# Altium footprint library isolationScaleSMD_V4 - Copy.PcbLib: 12 footprints
Each footprint in its own frame and in the unit in brackets; x right, y up, seen from the top. Pads: shape width x height; smd on the part's side, far side on the other; paste and mask are expansions set on the pad; w line width, h text height; cw(c..) or ccw(c..) is an arc to the next point about the centre after c.
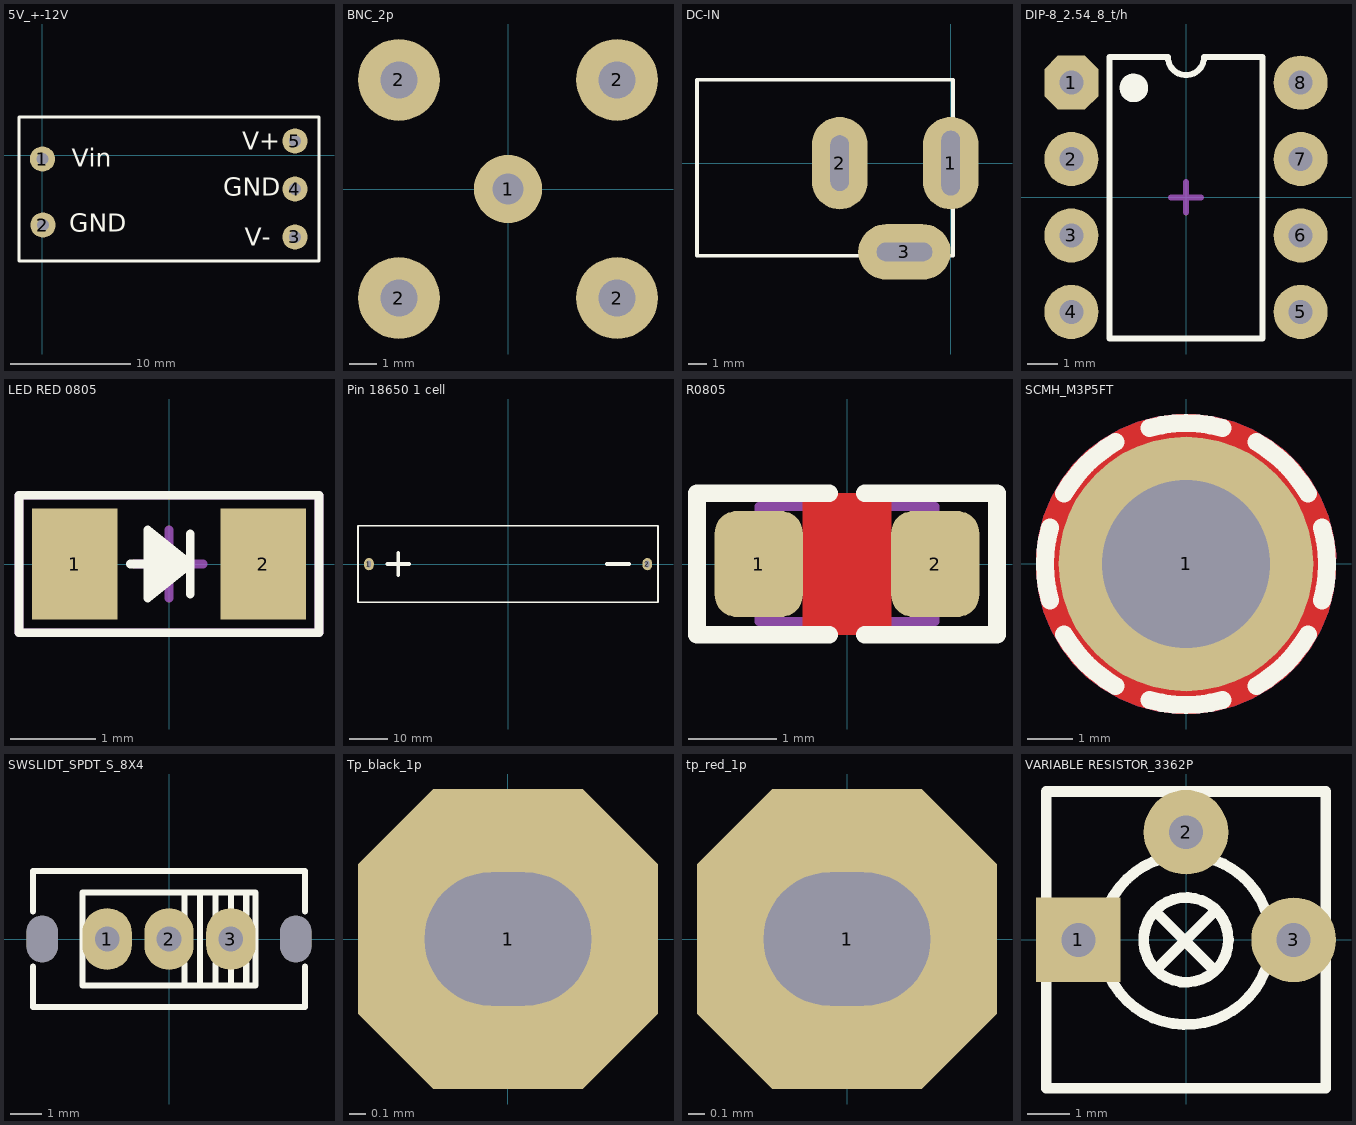
[diagram p0: the footprints below, top view; thin cyan lines are the x and y axes]

## 5V_+-12V [mm]
height 0.9
pads (5):
  round 2.1 hole 1: 1(0,-0.3) 2(0.049,-5.8) 3(21.049,-6.8) 4(21.049,-2.8) 5(21.049,1.2)
Top Overlay:
  lines w0.25: -1.951,-8.8 -1.951,3.2 23.049,3.2 23.049,-8.8 -1.951,-8.8
  text "Vin" at 2.454,-0.946 h1.52
  text "GND" at 2.254,-6.346 h1.52
  text "V+" at 16.654,0.454 h1.52
  text "V-" at 16.854,-7.546 h1.52
  text "GND" at 15.054,-3.346 h1.52

## BNC_2p [mm]
height 8.5
pads (5):
  round 2.5 hole 1.15: 1(0,0)
  round 3 hole 1.35: 2(-4,-4) 2(-4,4) 2(4,-4) 2(4,4)
3D body "China BNC.STEP": height 14.35, standoff -3.65, extent -6.5,-4.973 6.5,25.027

## DC-IN [mm] "Jac DC input"
height 5.08
pads (3):
  oval 3x5 hole 1 slot 3.5 at 90 deg: 1(0,0)
  oval 3x5 hole 1 slot 3 at 90 deg: 2(-6,0)
  oval 5x3 hole 1 slot 3 at 0 deg: 3(-2.5,-4.8)
Top Overlay:
  lines w0.2: -13.716,-5.008 0.127,-5.008 0.127,4.5 -13.716,4.5 -13.716,-5.008
3D body "SW3dPS-dc range - dc connector[4840.2201].STEP": height 11.02, standoff -3.48, extent -13.627,-5.003 0.199,4.503

## DIP-8_2.54_8_t/h [mm]
height 8.5
pads (8):
  oct 1.8x1.8 hole 0.8: 1(-3.81,3.81)
  round 1.8 hole 0.8: 2(-3.81,1.27) 3(-3.81,-1.27) 4(-3.81,-3.81) 5(3.81,-3.81) 6(3.81,-1.27) 7(3.81,1.27) 8(3.81,3.81)
Top Overlay:
  circle w0.254: c-1.734,3.635 r0.35
  region: -1.734,3.285 -1.804,3.285 -1.932,3.338 -2.031,3.437 -2.084,3.565 -2.084,3.635 -2.084,3.705 -2.031,3.833 -1.932,3.932 -1.804,3.985 -1.734,3.985 -1.664,3.985 -1.536,3.932 -1.437,3.833 -1.384,3.705 -1.384,3.635 -1.384,3.565 -1.437,3.437 -1.536,3.338 -1.664,3.285
  lines w0.2: -2.54,-4.699 2.54,-4.699 2.54,4.659 0.6,4.659 cw(c0,4.659) -0.6,4.659 -2.54,4.659 -2.54,-4.699
Mechanical 15:
  lines w0.2: -0.5,0 0.5,0 ; 0,-0.5 0,0.5
3D body "User Library-DIP-8P-M01.step": height 4.36, standoff -3, extent -3.937,-4.7 3.933,4.7

## LED RED 0805 [mm]
pads (2):
  rect 1x1.3 smd: 1(-1.1,0) 2(1.1,0)
Top Overlay:
  region: -0.25,-0.4 -0.25,0.4 0.25,0
  lines w0.1: -0.45,0 -0.25,0 ; 0.25,-0.35 0.25,0.35 ; -1.75,-0.8 1.75,-0.8 1.75,0.8 -1.75,0.8 -1.75,-0.8 ; -0.25,-0.4 0.25,0 -0.25,0.4 -0.25,-0.4
Mechanical 13:
  lines w0.1: -1.75,-0.8 -1.75,0.8 1.75,0.8 1.75,-0.8 -1.75,-0.8
Mechanical 15:
  lines w0.1: -0.4,0 0.4,0 ; 0,-0.4 0,0.4
3D body "LED-0805-Red.step": height 0.8, standoff -0.01, extent -1.01,-0.625 1.01,0.625

## Pin 18650 1 cell [mm]
height 0.9
pads (2):
  oval 2.5x3.2 hole 1 slot 1.7 at 90 deg: 1(-36.2,0) 2(36.2,0)
Top Overlay:
  lines w0.4: -39.052,-9.97 -39.052,10.033 38.989,10.033 38.989,-9.97 -39.052,-9.97
  lines w1: -31.432,0 -25.717,0 ; -28.575,-2.857 -28.575,2.857 ; 25.717,0 31.432,0
3D body "Hold_18650-1p.stp": height 21.7, standoff -3.8, extent -39,-10 39,10

## R0805 [mm] "CHIP RESISTOR 1/8 WATT ,2.0X1.3mm, 0805, 2012"
height 0.9
pads (2):
  rrect50% 1x1.2 smd mask+0.05: 1(-1,0) 2(1,0)
Top Layer:
  pour cut-out: -0.5,0.8 0.5,0.8 0.5,-0.8 -0.5,-0.8
Top Overlay:
  lines w0.2: -0.2,-0.8 -1.7,-0.8 -1.7,0.8 -0.2,0.8 ; 0.2,-0.8 1.7,-0.8 1.7,0.8 0.2,0.8
Mechanical 13:
  lines w0.1: -1,-0.65 1,-0.65 1,0.65 -1,0.65 -1,-0.65
3D body "User Library-RES_2013-0805.step": height 0.76, standoff 0, extent -1.15,-0.675 1.15,0.675

## SCMH_M3P5FT [mm] "SCREW mouting, M3.5, 3.5mm diameter and 7.0mm, FlatHead"
height 17
pads (1):
  round 5.6 / inner round 4 / far side round 5.6 hole 3.7 mask+0.1: 1(0,0)
Top Layer:
  pour cut-out: 0,3.3 -0.216,3.3 -0.645,3.244 -1.063,3.132 -1.463,2.966 -1.837,2.75 -2.181,2.486 -2.486,2.181 -2.75,1.837 -2.966,1.463 -3.132,1.063 -3.244,0.645 -3.3,0.216 -3.3,0 -3.3,-0.216 -3.244,-0.645 -3.132,-1.063 -2.966,-1.463 -2.75,-1.837 -2.486,-2.181 -2.181,-2.486 -1.837,-2.75 -1.463,-2.966 -1.063,-3.132 -0.645,-3.244 -0.216,-3.3 0,-3.3 0.216,-3.3 0.645,-3.244 1.063,-3.132 1.463,-2.966 1.837,-2.75 2.18,-2.486 2.486,-2.181 2.75,-1.837 2.966,-1.463 3.132,-1.063 3.244,-0.645 3.3,-0.216 3.3,0 3.3,0.216 3.244,0.645 3.132,1.063 2.966,1.463 2.75,1.837 2.486,2.181 2.181,2.486 1.837,2.75 1.463,2.966 1.063,3.132 0.645,3.244 0.216,3.3
Bottom Layer:
  pour cut-out: 0,3.3 -0.216,3.3 -0.645,3.244 -1.063,3.132 -1.463,2.966 -1.837,2.75 -2.181,2.486 -2.486,2.181 -2.75,1.837 -2.966,1.463 -3.132,1.063 -3.244,0.645 -3.3,0.216 -3.3,0 -3.3,-0.216 -3.244,-0.645 -3.132,-1.063 -2.966,-1.463 -2.75,-1.837 -2.486,-2.181 -2.181,-2.486 -1.837,-2.75 -1.463,-2.966 -1.063,-3.132 -0.645,-3.244 -0.216,-3.3 0,-3.3 0.216,-3.3 0.645,-3.244 1.063,-3.132 1.463,-2.966 1.837,-2.75 2.18,-2.486 2.486,-2.181 2.75,-1.837 2.966,-1.463 3.132,-1.063 3.244,-0.645 3.3,-0.216 3.3,0 3.3,0.216 3.244,0.645 3.132,1.063 2.966,1.463 2.75,1.837 2.486,2.181 2.181,2.486 1.837,2.75 1.463,2.966 1.063,3.132 0.645,3.244 0.216,3.3
Top Overlay:
  lines w0.4: -2.994,-0.802 cw(c0,0) -2.994,0.802 ; -2.685,-1.55 ccw(c0,0) -1.55,-2.685 ; -2.685,1.55 cw(c0,0) -1.55,2.685 ; -0.802,-2.994 ccw(c0,0) 0.802,-2.994 ; -0.802,2.994 cw(c0,0) 0.802,2.994 ; 1.55,-2.685 ccw(c0,0) 2.685,-1.55 ; 1.55,2.685 cw(c0,0) 2.685,1.55 ; 2.994,-0.802 ccw(c0,0) 2.994,0.802

## SWSLIDT_SPDT_S_8X4 [mm] "Switch, Slide, SPDT, Straight, THD, 8.6X4.3mm"
height 10
pads (5):
  oval 1.6x2 hole 0.8: 1(-2,0) 2(0,0) 3(2,0)
  oval 1x1.5 hole 1 slot 1.5 at 90 deg unplated: ""(-4.1,0) ""(4.1,0)
Top Overlay:
  lines w0.2: -4.4,-0.9 -4.4,-2.2 4.4,-2.2 4.4,-0.9 ; -4.4,0.9 -4.4,2.2 4.4,2.2 4.4,0.9 ; 0.5,-1.5 0.5,-0.8 ; 0.5,0.7 0.5,1.5 ; 1,-1.5 1,1.5 ; 1.5,-1.5 1.5,-0.8 ; 1.5,0.7 1.5,1.5 ; 2,-1.5 2,-1 ; 2,0.9 2,1.5 ; 2.5,-1.5 2.5,-0.8 ; 2.5,0.8 2.5,1.5 ; -2.8,-1.5 2.8,-1.5 2.8,1.5 -2.8,1.5 -2.8,-1.5
3D body "OS102011MS2QN1.stp": height 8.8, standoff -2.7, extent -4.3,-2.15 4.3,2.15

## Tp_black_1p [mm]
height 8.5
pads (1):
  oct 1.8x1.8 hole 0.8 slot 1 at 0 deg: 1(0,0)
3D body "testpin black 1mm.stp": height 5, standoff -2.53, extent -1.15,-1.15 1.15,1.151

## tp_red_1p [mm]
height 8.5
pads (1):
  oct 1.8x1.8 hole 0.8 slot 1 at 0 deg: 1(0,0)
3D body "testpin red 1mm.stp": height 5, standoff -2.53, extent -1.15,-1.15 1.15,1.15

## VARIABLE RESISTOR_3362P [mm]
height 0.9
pads (3):
  rect 2x2 hole 0.8: 1(-2.54,0)
  round 2 hole 0.8: 2(0,2.54) 3(2.54,0)
Top Overlay:
  circle w0.254: c0,0 r1
  circle w0.254: c0,0 r2
  lines w0.254: -0.7,0.65 0.6,-0.65 ; -0.65,-0.7 -0.7,-0.7 0.7,0.7 ; -3.3,-3.5 -3.3,3.5 3.3,3.5 3.3,-3.5 -3.3,-3.5
3D body "User Library-Bourns 3362P.step": height 4.7, standoff -5.47, extent -3.3,-3.781 3.3,3.273